# Altium integrated library TI Data Converters Analog to Digital Converter.IntLib: 2197 symbols (part 86 of 168)
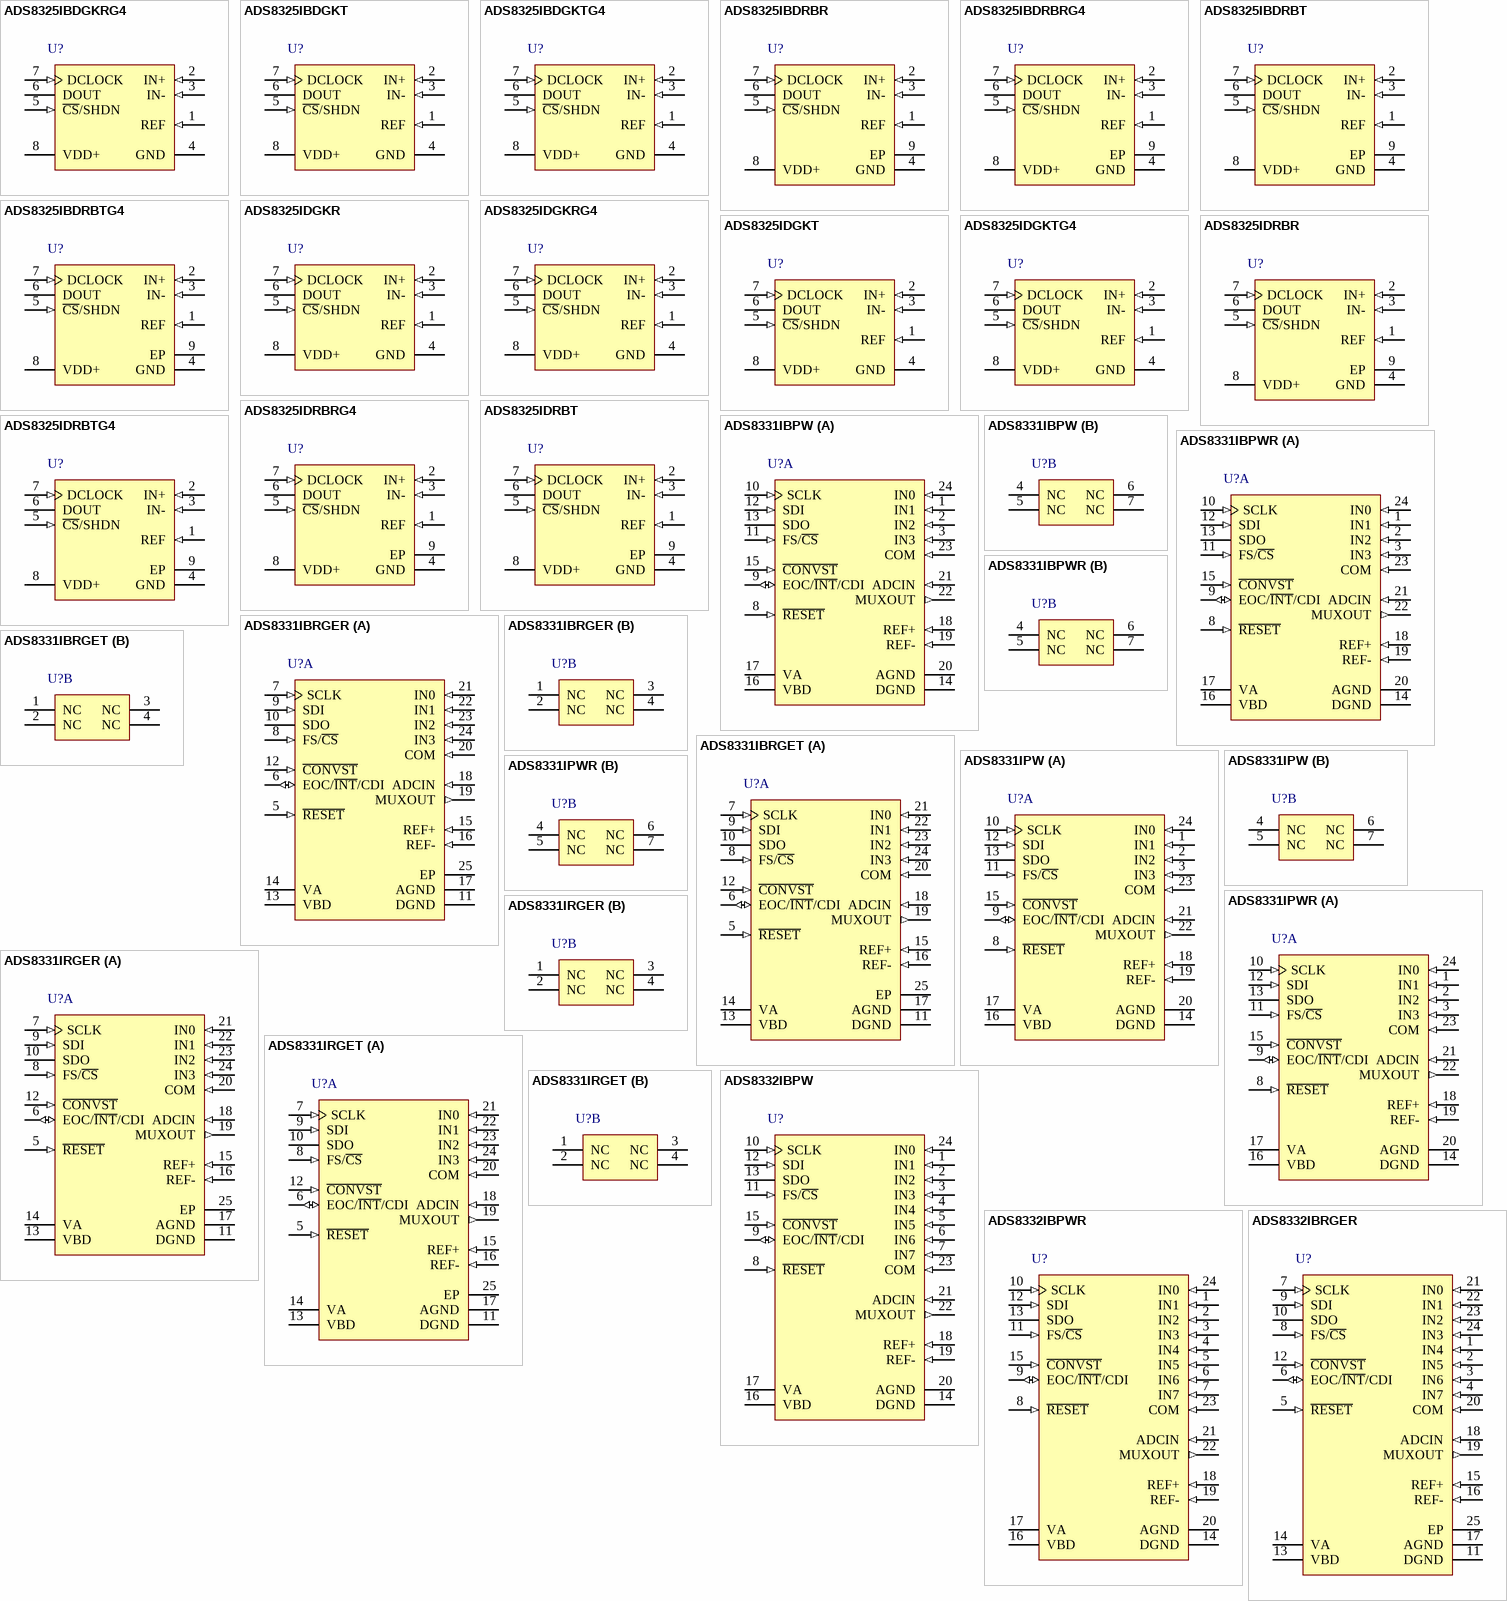
[diagram p211: symbols ADS8325IBDGKRG4 to ADS8332IBRGER]

## ADS8325IDRBTG4
designator U?
16-Bit, 100 kSPS Serial Out, 2.7 to 5.5 V Micro Power Sampling ADC, -40 to 85 degC, 8-pin SON (DRB8), Green (RoHS & no Sb/Br); Manufacturer: Texas Instruments; PartNumber: ADS8325IDRBTG4; # Input Channels: 1; Analog Voltage AV/DD(Max)(V): 5.5; Analog Voltage AV/DD(Min)(V): 2.7; Architecture: SAR; ENOB(Bits): 14.6; INL(Max)(+/-LSB): 6; Interface: Serial SPI; Resolution(Bits): 16; Sample Rate (max)(SPS): 100k; SFDR(dB): 100; SINAD(dB): 90; SubFamily: Precision ADC (<=10MSPS); DatasheetVersion: SBAS226C; PackageVersion: 4203482-2/K, 06/2012; PackageReference: DRB8-2400X1650TP; PackageDescription: 8-Pin Plastic Small Outline, Body 3 x 3 mm, Pitch 0.65 mm; Supplier 1: Digi-Key; Supplier Part Number 1: ADS930EG4-ND; Supplier 2: Mouser; Supplier Part Number 2: 595-ADS930EG4; Digital Supply(Max)(V): 5.5; Digital Supply(Min)(V): 2.7; Eco-Plan: Green (RoHS & no Sb/Br); SNR(dB): 90; Mounting Technology: Surface Mount; ComponentLink1Description: Manufacturer URL; ComponentLink1URL: http://www.ti.com/; ComponentLink2Description: Datasheet; ComponentLink2URL: http://www.ti.com/general/docs/lit/getliterature.tsp?genericPartNumber=ADS8325&fileType=pdf; ComponentLink3Description: Package Specification; ComponentLink3URL: http://www.ti.com/litv/pdf/mpds118h
footprint TI-DRB8-2400X1650TP_V (SON, 8-Leads, Body 3x3mm, Pitch 0.65mm, Thermal Pad 2.4x1.65mm)
pins: 1 REF (in) "Reference Input", 2 IN+ (in) "Noninverting Input", 3 IN- (in) "Inverting Analog Input", 4 GND (power) "Ground", 5 ~{CS}/SHDN (in) "Chip select when low; Shutdown mode when high.", 6 DOUT (hiz) "The serial output data word.", 7 DCLOCK (in) "Data clock synchronizes the serial data transfer and determines conversion speed.", 8 VDD+ (power) "Power supply", 9 EP (power)

## ADS8331IBPW
designator U?
2.7 to 5.5 V, 16-Bit 500 kSPS Low Power Serial ADC, -40 to 85 degC, 24-pin SOP (PW24), Green (RoHS & no Sb/Br); Manufacturer: Texas Instruments; PartNumber: ADS8331IBPW; # Input Channels: 4; Analog Voltage AV/DD(Max)(V): 5.5; Analog Voltage AV/DD(Min)(V): 2.7; Architecture: SAR; Digital Supply(Min)(V): 1.65; INL(Max)(+/-LSB): 2; Resolution(Bits): 16; Sample Rate (max)(SPS): 500k; SFDR(dB): 103; SINAD(dB): 88.5; SNR(dB): 89; SubFamily: Precision ADC (<=10MSPS); DatasheetVersion: SBAS363C; PackageVersion: 4040064-6/G, 02/2011; PackageReference: PW24; PackageDescription: 24-Pin Plastic Small Outline, Body 7.8 x 4.4 mm, Pitch 0.65 mm; Supplier 1: Digi-Key; Supplier Part Number 1: ADS7818ETR-ND; Supplier 2: Digi-Key; Supplier Part Number 2: ADS7818ECT-ND; Supplier 3: Digi-Key; Supplier Part Number 3: ADS7818EDKR-ND; Supplier 4: Farnell; Supplier Part Number 4: 6536517; Supplier 5: Newark; Supplier Part Number 5: 74C7129; Supplier 6: Mouser; Supplier Part Number 6: 595-ADS7818E/250; Digital Supply(Max)(V): 5.5; Eco-Plan: Green (RoHS & no Sb/Br); Mounting Technology: Surface Mount; Code_JEDEC: MO-153; ComponentLink1Description: Manufacturer URL; ComponentLink1URL: http://www.ti.com/; ComponentLink2Description: Datasheet; ComponentLink2URL: http://www.ti.com/general/docs/lit/getliterature.tsp?genericPartNumber=ADS8331&fileType=pdf; ComponentLink3Description: Package Specification; ComponentLink3URL: http://www.ti.com/litv/pdf/mpds363
footprint TI-PW24_N (SOP, 24-Leads, Body 7.8x4.4mm, Pitch 0.65mm, IPC Medium Density)
footprint TI-PW24_L (SOP, 24-Leads, Body 7.8x4.4mm, Pitch 0.65mm, IPC High Density)
footprint TI-PW24_M (SOP, 24-Leads, Body 7.8x4.4mm, Pitch 0.65mm, IPC Low Density)
part A pins: 1 IN1 (in) "Mux inputs", 2 IN2 (in) "Mux inputs", 3 IN3 (in) "Mux inputs", 8 ~{RESET} (in) "External reset (active low)", 9 EOC/~{INT}/CDI (io), 10 SCLK (in) "SPI clock for serial interface", 11 FS/~{CS} (in), 12 SDI (in) "SPI serial data in", 13 SDO (hiz) "SPI serial data out", 14 DGND (power) "Digital interface ground", 15 ~{CONVST} (in) "Conversion start. Freezes sample and hold, starts conversion.", 16 VBD (power) "Digital interface supply", 17 VA (power) "Analog supply, +2.7V to +5.5V", 18 REF+ (in) "External reference input", 19 REF- (in) "External reference ground (connect to AGND through an individual via on the printed circuit board)", 20 AGND (power) "Analog ground", 21 ADCIN (in) "ADC input", 22 MUXOUT (out) "Mux output", 23 COM (in) "Common ADC input (usually connected to AGND)", 24 IN0 (in) "Mux inputs"
part B pins: 4 NC "No connection", 5 NC "No connection", 6 NC "No connection", 7 NC "No connection"

## ADS8331IBPWR
designator U?
2.7 to 5.5 V, 16-Bit 500 kSPS Low Power Serial ADC, -40 to 85 degC, 24-pin SOP (PW24), Green (RoHS & no Sb/Br); Manufacturer: Texas Instruments; PartNumber: ADS8331IBPWR; # Input Channels: 4; Analog Voltage AV/DD(Max)(V): 5.5; Analog Voltage AV/DD(Min)(V): 2.7; Architecture: SAR; Digital Supply(Min)(V): 1.65; INL(Max)(+/-LSB): 2; Resolution(Bits): 16; Sample Rate (max)(SPS): 500k; SFDR(dB): 103; SINAD(dB): 88.5; SNR(dB): 89; SubFamily: Precision ADC (<=10MSPS); DatasheetVersion: SBAS363C; PackageVersion: 4040064-6/G, 02/2011; PackageReference: PW24; PackageDescription: 24-Pin Plastic Small Outline, Body 7.8 x 4.4 mm, Pitch 0.65 mm; Supplier 1: Digi-Key; Supplier Part Number 1: ADS7818E/250G4-ND; Supplier 2: Farnell; Supplier Part Number 2: 9324119; Supplier 3: Newark; Supplier Part Number 3: 37K8968; Supplier 4: Mouser; Supplier Part Number 4: 595-ADS7818E/250G4; Digital Supply(Max)(V): 5.5; Eco-Plan: Green (RoHS & no Sb/Br); Mounting Technology: Surface Mount; Code_JEDEC: MO-153; ComponentLink1Description: Manufacturer URL; ComponentLink1URL: http://www.ti.com/; ComponentLink2Description: Datasheet; ComponentLink2URL: http://www.ti.com/general/docs/lit/getliterature.tsp?genericPartNumber=ADS8331&fileType=pdf; ComponentLink3Description: Package Specification; ComponentLink3URL: http://www.ti.com/litv/pdf/mpds363
footprint TI-PW24_N (SOP, 24-Leads, Body 7.8x4.4mm, Pitch 0.65mm, IPC Medium Density)
footprint TI-PW24_L (SOP, 24-Leads, Body 7.8x4.4mm, Pitch 0.65mm, IPC High Density)
footprint TI-PW24_M (SOP, 24-Leads, Body 7.8x4.4mm, Pitch 0.65mm, IPC Low Density)
part A pins: 1 IN1 (in) "Mux inputs", 2 IN2 (in) "Mux inputs", 3 IN3 (in) "Mux inputs", 8 ~{RESET} (in) "External reset (active low)", 9 EOC/~{INT}/CDI (io), 10 SCLK (in) "SPI clock for serial interface", 11 FS/~{CS} (in), 12 SDI (in) "SPI serial data in", 13 SDO (hiz) "SPI serial data out", 14 DGND (power) "Digital interface ground", 15 ~{CONVST} (in) "Conversion start. Freezes sample and hold, starts conversion.", 16 VBD (power) "Digital interface supply", 17 VA (power) "Analog supply, +2.7V to +5.5V", 18 REF+ (in) "External reference input", 19 REF- (in) "External reference ground (connect to AGND through an individual via on the printed circuit board)", 20 AGND (power) "Analog ground", 21 ADCIN (in) "ADC input", 22 MUXOUT (out) "Mux output", 23 COM (in) "Common ADC input (usually connected to AGND)", 24 IN0 (in) "Mux inputs"
part B pins: 4 NC "No connection", 5 NC "No connection", 6 NC "No connection", 7 NC "No connection"

## ADS8331IBRGER
designator U?
2.7 to 5.5 V, 16-Bit 500 kSPS Low Power Serial ADC, -40 to 85 degC, 24-pin QFN (RGE24), Green (RoHS & no Sb/Br); Manufacturer: Texas Instruments; PartNumber: ADS8331IBRGER; # Input Channels: 4; Analog Voltage AV/DD(Max)(V): 5.5; Analog Voltage AV/DD(Min)(V): 2.7; Architecture: SAR; Digital Supply(Min)(V): 1.65; INL(Max)(+/-LSB): 2; Resolution(Bits): 16; Sample Rate (max)(SPS): 500k; SFDR(dB): 103; SINAD(dB): 88.5; SNR(dB): 89; SubFamily: Precision ADC (<=10MSPS); DatasheetVersion: SBAS363C; PackageVersion: 4204104/G, 07/2011; PackageReference: RGE24-2800X2800TP; PackageDescription: 24-Pin Plastic Flat Pack, Body 4 x 4 mm, Pitch 0.5 mm; Supplier 1: Digi-Key; Supplier Part Number 1: ADS7818E/2K5-ND; Supplier 2: Mouser; Supplier Part Number 2: 595-ADS7818E/2K5; Digital Supply(Max)(V): 5.5; Eco-Plan: Green (RoHS & no Sb/Br); Mounting Technology: Surface Mount; Code_JEDEC: MO-220; ComponentLink1Description: Manufacturer URL; ComponentLink1URL: http://www.ti.com/; ComponentLink2Description: Datasheet; ComponentLink2URL: http://www.ti.com/general/docs/lit/getliterature.tsp?genericPartNumber=ADS8331&fileType=pdf; ComponentLink3Description: Package Specification; ComponentLink3URL: http://www.ti.com/litv/pdf/mpqf124f
footprint TI-RGE24-2800X2800TP_V (QFN, 24-Leads, Body 4x4mm, Pitch 0.5mm, Thermal Pad 2.8X2.8mm)
part A pins: 5 ~{RESET} (in) "External reset (active low)", 6 EOC/~{INT}/CDI (io), 7 SCLK (in) "SPI clock for serial interface", 8 FS/~{CS} (in), 9 SDI (in) "SPI serial data in", 10 SDO (hiz) "SPI serial data out", 11 DGND (power) "Digital interface ground", 12 ~{CONVST} (in) "Conversion start. Freezes sample and hold, starts conversion.", 13 VBD (power) "Digital interface supply", 14 VA (power) "Analog supply, +2.7V to +5.5V", 15 REF+ (in) "External reference input", 16 REF- (in) "External reference ground (connect to AGND through an individual via on the printed circuit board)", 17 AGND (power) "Analog ground", 18 ADCIN (in) "ADC input", 19 MUXOUT (out) "Mux output", 20 COM (in) "Common ADC input (usually connected to AGND)", 21 IN0 (in) "Mux inputs", 22 IN1 (in) "Mux inputs", 23 IN2 (in) "Mux inputs", 24 IN3 (in) "Mux inputs", 25 EP (power)
part B pins: 1 NC "No connection", 2 NC "No connection", 3 NC "No connection", 4 NC "No connection"

## ADS8331IBRGET
designator U?
2.7 to 5.5 V, 16-Bit 500 kSPS Low Power Serial ADC, -40 to 85 degC, 24-pin QFN (RGE24), Green (RoHS & no Sb/Br); Manufacturer: Texas Instruments; PartNumber: ADS8331IBRGET; # Input Channels: 4; Analog Voltage AV/DD(Max)(V): 5.5; Analog Voltage AV/DD(Min)(V): 2.7; Architecture: SAR; Digital Supply(Min)(V): 1.65; INL(Max)(+/-LSB): 2; Resolution(Bits): 16; Sample Rate (max)(SPS): 500k; SFDR(dB): 103; SINAD(dB): 88.5; SNR(dB): 89; SubFamily: Precision ADC (<=10MSPS); DatasheetVersion: SBAS363C; PackageVersion: 4204104/G, 07/2011; PackageReference: RGE24-2800X2800TP; PackageDescription: 24-Pin Plastic Flat Pack, Body 4 x 4 mm, Pitch 0.5 mm; Supplier 1: Digi-Key; Supplier Part Number 1: ADS7818E/2K5G4-ND; Supplier 2: Mouser; Supplier Part Number 2: 595-ADS7818E/2K5G4; Digital Supply(Max)(V): 5.5; Eco-Plan: Green (RoHS & no Sb/Br); Mounting Technology: Surface Mount; Code_JEDEC: MO-220; ComponentLink1Description: Manufacturer URL; ComponentLink1URL: http://www.ti.com/; ComponentLink2Description: Datasheet; ComponentLink2URL: http://www.ti.com/general/docs/lit/getliterature.tsp?genericPartNumber=ADS8331&fileType=pdf; ComponentLink3Description: Package Specification; ComponentLink3URL: http://www.ti.com/litv/pdf/mpqf124f
footprint TI-RGE24-2800X2800TP_V (QFN, 24-Leads, Body 4x4mm, Pitch 0.5mm, Thermal Pad 2.8X2.8mm)
part A pins: 5 ~{RESET} (in) "External reset (active low)", 6 EOC/~{INT}/CDI (io), 7 SCLK (in) "SPI clock for serial interface", 8 FS/~{CS} (in), 9 SDI (in) "SPI serial data in", 10 SDO (hiz) "SPI serial data out", 11 DGND (power) "Digital interface ground", 12 ~{CONVST} (in) "Conversion start. Freezes sample and hold, starts conversion.", 13 VBD (power) "Digital interface supply", 14 VA (power) "Analog supply, +2.7V to +5.5V", 15 REF+ (in) "External reference input", 16 REF- (in) "External reference ground (connect to AGND through an individual via on the printed circuit board)", 17 AGND (power) "Analog ground", 18 ADCIN (in) "ADC input", 19 MUXOUT (out) "Mux output", 20 COM (in) "Common ADC input (usually connected to AGND)", 21 IN0 (in) "Mux inputs", 22 IN1 (in) "Mux inputs", 23 IN2 (in) "Mux inputs", 24 IN3 (in) "Mux inputs", 25 EP (power)
part B pins: 1 NC "No connection", 2 NC "No connection", 3 NC "No connection", 4 NC "No connection"

## ADS8331IPW
designator U?
2.7 to 5.5 V, 16-Bit 500 kSPS Low Power Serial ADC, -40 to 85 degC, 24-pin SOP (PW24), Green (RoHS & no Sb/Br); Manufacturer: Texas Instruments; PartNumber: ADS8331IPW; # Input Channels: 4; Analog Voltage AV/DD(Max)(V): 5.5; Analog Voltage AV/DD(Min)(V): 2.7; Architecture: SAR; Digital Supply(Min)(V): 1.65; INL(Max)(+/-LSB): 3; Resolution(Bits): 16; Sample Rate (max)(SPS): 500k; SFDR(dB): 103; SINAD(dB): 87.5; SNR(dB): 88; SubFamily: Precision ADC (<=10MSPS); DatasheetVersion: SBAS363C; PackageVersion: 4040064-6/G, 02/2011; PackageReference: PW24; PackageDescription: 24-Pin Plastic Small Outline, Body 7.8 x 4.4 mm, Pitch 0.65 mm; Supplier 1: Digi-Key; Supplier Part Number 1: ADS7818EBTR-ND; Supplier 2: Digi-Key; Supplier Part Number 2: ADS7818EBCT-ND; Supplier 3: Digi-Key; Supplier Part Number 3: ADS7818EBDKR-ND; Supplier 4: Newark; Supplier Part Number 4: 74C7131; Supplier 5: Mouser; Supplier Part Number 5: 595-ADS7818EB/250; Digital Supply(Max)(V): 5.5; Eco-Plan: Green (RoHS & no Sb/Br); Mounting Technology: Surface Mount; Code_JEDEC: MO-153; ComponentLink1Description: Manufacturer URL; ComponentLink1URL: http://www.ti.com/; ComponentLink2Description: Datasheet; ComponentLink2URL: http://www.ti.com/general/docs/lit/getliterature.tsp?genericPartNumber=ADS8331&fileType=pdf; ComponentLink3Description: Package Specification; ComponentLink3URL: http://www.ti.com/litv/pdf/mpds363
footprint TI-PW24_N (SOP, 24-Leads, Body 7.8x4.4mm, Pitch 0.65mm, IPC Medium Density)
footprint TI-PW24_L (SOP, 24-Leads, Body 7.8x4.4mm, Pitch 0.65mm, IPC High Density)
footprint TI-PW24_M (SOP, 24-Leads, Body 7.8x4.4mm, Pitch 0.65mm, IPC Low Density)
part A pins: 1 IN1 (in) "Mux inputs", 2 IN2 (in) "Mux inputs", 3 IN3 (in) "Mux inputs", 8 ~{RESET} (in) "External reset (active low)", 9 EOC/~{INT}/CDI (io), 10 SCLK (in) "SPI clock for serial interface", 11 FS/~{CS} (in), 12 SDI (in) "SPI serial data in", 13 SDO (hiz) "SPI serial data out", 14 DGND (power) "Digital interface ground", 15 ~{CONVST} (in) "Conversion start. Freezes sample and hold, starts conversion.", 16 VBD (power) "Digital interface supply", 17 VA (power) "Analog supply, +2.7V to +5.5V", 18 REF+ (in) "External reference input", 19 REF- (in) "External reference ground (connect to AGND through an individual via on the printed circuit board)", 20 AGND (power) "Analog ground", 21 ADCIN (in) "ADC input", 22 MUXOUT (out) "Mux output", 23 COM (in) "Common ADC input (usually connected to AGND)", 24 IN0 (in) "Mux inputs"
part B pins: 4 NC "No connection", 5 NC "No connection", 6 NC "No connection", 7 NC "No connection"

## ADS8331IPWR
designator U?
2.7 to 5.5 V, 16-Bit 500 kSPS Low Power Serial ADC, -40 to 85 degC, 24-pin SOP (PW24), Green (RoHS & no Sb/Br); Manufacturer: Texas Instruments; PartNumber: ADS8331IPWR; # Input Channels: 4; Analog Voltage AV/DD(Max)(V): 5.5; Analog Voltage AV/DD(Min)(V): 2.7; Architecture: SAR; Digital Supply(Min)(V): 1.65; INL(Max)(+/-LSB): 3; Resolution(Bits): 16; Sample Rate (max)(SPS): 500k; SFDR(dB): 103; SINAD(dB): 87.5; SNR(dB): 88; SubFamily: Precision ADC (<=10MSPS); DatasheetVersion: SBAS363C; PackageVersion: 4040064-6/G, 02/2011; PackageReference: PW24; PackageDescription: 24-Pin Plastic Small Outline, Body 7.8 x 4.4 mm, Pitch 0.65 mm; Supplier 1: Digi-Key; Supplier Part Number 1: ADS7818EB/250G4-ND; Supplier 2: Mouser; Supplier Part Number 2: 595-ADS7818EB/250G4; Digital Supply(Max)(V): 5.5; Eco-Plan: Green (RoHS & no Sb/Br); Mounting Technology: Surface Mount; Code_JEDEC: MO-153; ComponentLink1Description: Manufacturer URL; ComponentLink1URL: http://www.ti.com/; ComponentLink2Description: Datasheet; ComponentLink2URL: http://www.ti.com/general/docs/lit/getliterature.tsp?genericPartNumber=ADS8331&fileType=pdf; ComponentLink3Description: Package Specification; ComponentLink3URL: http://www.ti.com/litv/pdf/mpds363
footprint TI-PW24_N (SOP, 24-Leads, Body 7.8x4.4mm, Pitch 0.65mm, IPC Medium Density)
footprint TI-PW24_L (SOP, 24-Leads, Body 7.8x4.4mm, Pitch 0.65mm, IPC High Density)
footprint TI-PW24_M (SOP, 24-Leads, Body 7.8x4.4mm, Pitch 0.65mm, IPC Low Density)
part A pins: 1 IN1 (in) "Mux inputs", 2 IN2 (in) "Mux inputs", 3 IN3 (in) "Mux inputs", 8 ~{RESET} (in) "External reset (active low)", 9 EOC/~{INT}/CDI (io), 10 SCLK (in) "SPI clock for serial interface", 11 FS/~{CS} (in), 12 SDI (in) "SPI serial data in", 13 SDO (hiz) "SPI serial data out", 14 DGND (power) "Digital interface ground", 15 ~{CONVST} (in) "Conversion start. Freezes sample and hold, starts conversion.", 16 VBD (power) "Digital interface supply", 17 VA (power) "Analog supply, +2.7V to +5.5V", 18 REF+ (in) "External reference input", 19 REF- (in) "External reference ground (connect to AGND through an individual via on the printed circuit board)", 20 AGND (power) "Analog ground", 21 ADCIN (in) "ADC input", 22 MUXOUT (out) "Mux output", 23 COM (in) "Common ADC input (usually connected to AGND)", 24 IN0 (in) "Mux inputs"
part B pins: 4 NC "No connection", 5 NC "No connection", 6 NC "No connection", 7 NC "No connection"

## ADS8331IRGER
designator U?
2.7 to 5.5 V, 16-Bit 500 kSPS Low Power Serial ADC, -40 to 85 degC, 24-pin QFN (RGE24), Green (RoHS & no Sb/Br); Manufacturer: Texas Instruments; PartNumber: ADS8331IRGER; # Input Channels: 4; Analog Voltage AV/DD(Max)(V): 5.5; Analog Voltage AV/DD(Min)(V): 2.7; Architecture: SAR; Digital Supply(Min)(V): 1.65; INL(Max)(+/-LSB): 3; Resolution(Bits): 16; Sample Rate (max)(SPS): 500k; SFDR(dB): 103; SINAD(dB): 87.5; SNR(dB): 88; SubFamily: Precision ADC (<=10MSPS); DatasheetVersion: SBAS363C; PackageVersion: 4204104/G, 07/2011; PackageReference: RGE24-2800X2800TP; PackageDescription: 24-Pin Plastic Flat Pack, Body 4 x 4 mm, Pitch 0.5 mm; Supplier 1: Digi-Key; Supplier Part Number 1: ADS7818EB/2K5-ND; Supplier 2: Mouser; Supplier Part Number 2: 595-ADS7818EB/2K5; Digital Supply(Max)(V): 5.5; Eco-Plan: Green (RoHS & no Sb/Br); Mounting Technology: Surface Mount; Code_JEDEC: MO-220; ComponentLink1Description: Manufacturer URL; ComponentLink1URL: http://www.ti.com/; ComponentLink2Description: Datasheet; ComponentLink2URL: http://www.ti.com/general/docs/lit/getliterature.tsp?genericPartNumber=ADS8331&fileType=pdf; ComponentLink3Description: Package Specification; ComponentLink3URL: http://www.ti.com/litv/pdf/mpqf124f
footprint TI-RGE24-2800X2800TP_V (QFN, 24-Leads, Body 4x4mm, Pitch 0.5mm, Thermal Pad 2.8X2.8mm)
part A pins: 5 ~{RESET} (in) "External reset (active low)", 6 EOC/~{INT}/CDI (io), 7 SCLK (in) "SPI clock for serial interface", 8 FS/~{CS} (in), 9 SDI (in) "SPI serial data in", 10 SDO (hiz) "SPI serial data out", 11 DGND (power) "Digital interface ground", 12 ~{CONVST} (in) "Conversion start. Freezes sample and hold, starts conversion.", 13 VBD (power) "Digital interface supply", 14 VA (power) "Analog supply, +2.7V to +5.5V", 15 REF+ (in) "External reference input", 16 REF- (in) "External reference ground (connect to AGND through an individual via on the printed circuit board)", 17 AGND (power) "Analog ground", 18 ADCIN (in) "ADC input", 19 MUXOUT (out) "Mux output", 20 COM (in) "Common ADC input (usually connected to AGND)", 21 IN0 (in) "Mux inputs", 22 IN1 (in) "Mux inputs", 23 IN2 (in) "Mux inputs", 24 IN3 (in) "Mux inputs", 25 EP (power)
part B pins: 1 NC "No connection", 2 NC "No connection", 3 NC "No connection", 4 NC "No connection"

## ADS8331IRGET
designator U?
2.7 to 5.5 V, 16-Bit 500 kSPS Low Power Serial ADC, -40 to 85 degC, 24-pin QFN (RGE24), Green (RoHS & no Sb/Br); Manufacturer: Texas Instruments; PartNumber: ADS8331IRGET; # Input Channels: 4; Analog Voltage AV/DD(Max)(V): 5.5; Analog Voltage AV/DD(Min)(V): 2.7; Architecture: SAR; Digital Supply(Min)(V): 1.65; INL(Max)(+/-LSB): 3; Resolution(Bits): 16; Sample Rate (max)(SPS): 500k; SFDR(dB): 103; SINAD(dB): 87.5; SNR(dB): 88; SubFamily: Precision ADC (<=10MSPS); DatasheetVersion: SBAS363C; PackageVersion: 4204104/G, 07/2011; PackageReference: RGE24-2800X2800TP; PackageDescription: 24-Pin Plastic Flat Pack, Body 4 x 4 mm, Pitch 0.5 mm; Supplier 1: Digi-Key; Supplier Part Number 1: ADS7818EB/2K5G4-ND; Supplier 2: Mouser; Supplier Part Number 2: 595-ADS7818EB/2K5G4; Digital Supply(Max)(V): 5.5; Eco-Plan: Green (RoHS & no Sb/Br); Mounting Technology: Surface Mount; Code_JEDEC: MO-220; ComponentLink1Description: Manufacturer URL; ComponentLink1URL: http://www.ti.com/; ComponentLink2Description: Datasheet; ComponentLink2URL: http://www.ti.com/general/docs/lit/getliterature.tsp?genericPartNumber=ADS8331&fileType=pdf; ComponentLink3Description: Package Specification; ComponentLink3URL: http://www.ti.com/litv/pdf/mpqf124f
footprint TI-RGE24-2800X2800TP_V (QFN, 24-Leads, Body 4x4mm, Pitch 0.5mm, Thermal Pad 2.8X2.8mm)
part A pins: 5 ~{RESET} (in) "External reset (active low)", 6 EOC/~{INT}/CDI (io), 7 SCLK (in) "SPI clock for serial interface", 8 FS/~{CS} (in), 9 SDI (in) "SPI serial data in", 10 SDO (hiz) "SPI serial data out", 11 DGND (power) "Digital interface ground", 12 ~{CONVST} (in) "Conversion start. Freezes sample and hold, starts conversion.", 13 VBD (power) "Digital interface supply", 14 VA (power) "Analog supply, +2.7V to +5.5V", 15 REF+ (in) "External reference input", 16 REF- (in) "External reference ground (connect to AGND through an individual via on the printed circuit board)", 17 AGND (power) "Analog ground", 18 ADCIN (in) "ADC input", 19 MUXOUT (out) "Mux output", 20 COM (in) "Common ADC input (usually connected to AGND)", 21 IN0 (in) "Mux inputs", 22 IN1 (in) "Mux inputs", 23 IN2 (in) "Mux inputs", 24 IN3 (in) "Mux inputs", 25 EP (power)
part B pins: 1 NC "No connection", 2 NC "No connection", 3 NC "No connection", 4 NC "No connection"

## ADS8332IBPW
designator U?
2.7 to 5.5 V, 16-Bit 500 kSPS Low Power Serial ADC, 8-Channel MUX and Breakout, -40 to 85 degC, 24-pin SOP (PW24), Green (RoHS & no Sb/Br); Manufacturer: Texas Instruments; PartNumber: ADS8332IBPW; # Input Channels: 8; Analog Voltage AV/DD(Max)(V): 5.5; Analog Voltage AV/DD(Min)(V): 2.7; Architecture: SAR; Digital Supply(Min)(V): 1.65; INL(Max)(+/-LSB): 2; Resolution(Bits): 16; Sample Rate (max)(SPS): 500k; SFDR(dB): 103; SINAD(dB): 88.5; SNR(dB): 89; SubFamily: Precision ADC (<=10MSPS); DatasheetVersion: SBAS363C; PackageVersion: 4040064-6/G, 02/2011; PackageReference: PW24; PackageDescription: 24-Pin Plastic Small Outline, Body 7.8 x 4.4 mm, Pitch 0.65 mm; Supplier 1: Digi-Key; Supplier Part Number 1: ADS7818P-ND; Supplier 2: Newark; Supplier Part Number 2: 74C7132; Supplier 3: Mouser; Supplier Part Number 3: 595-ADS7818P; Digital Supply(Max)(V): 5.5; Eco-Plan: Green (RoHS & no Sb/Br); Mounting Technology: Surface Mount; Code_JEDEC: MO-153; ComponentLink1Description: Manufacturer URL; ComponentLink1URL: http://www.ti.com/; ComponentLink2Description: Datasheet; ComponentLink2URL: http://www.ti.com/general/docs/lit/getliterature.tsp?genericPartNumber=ADS8332&fileType=pdf; ComponentLink3Description: Package Specification; ComponentLink3URL: http://www.ti.com/litv/pdf/mpds363
footprint TI-PW24_N (SOP, 24-Leads, Body 7.8x4.4mm, Pitch 0.65mm, IPC Medium Density)
footprint TI-PW24_L (SOP, 24-Leads, Body 7.8x4.4mm, Pitch 0.65mm, IPC High Density)
footprint TI-PW24_M (SOP, 24-Leads, Body 7.8x4.4mm, Pitch 0.65mm, IPC Low Density)
pins: 1 IN1 (in) "Mux inputs", 2 IN2 (in) "Mux inputs", 3 IN3 (in) "Mux inputs", 4 IN4 (in) "Mux inputs", 5 IN5 (in) "Mux inputs", 6 IN6 (in) "Mux inputs", 7 IN7 (in) "Mux inputs", 8 ~{RESET} (in) "External reset (active low)", 9 EOC/~{INT}/CDI (io), 10 SCLK (in) "SPI clock for serial interface", 11 FS/~{CS} (in), 12 SDI (in) "SPI serial data in", 13 SDO (hiz) "SPI serial data out", 14 DGND (power) "Digital interface ground", 15 ~{CONVST} (in) "Conversion start. Freezes sample and hold, starts conversion.", 16 VBD (power) "Digital interface supply", 17 VA (power) "Analog supply, +2.7V to +5.5V", 18 REF+ (in) "External reference input", 19 REF- (in) "External reference ground (connect to AGND through an individual via on the printed circuit board)", 20 AGND (power) "Analog ground", 21 ADCIN (in) "ADC input", 22 MUXOUT (out) "Mux output", 23 COM (in) "Common ADC input (usually connected to AGND)", 24 IN0 (in) "Mux inputs"

## ADS8332IBPWR
designator U?
2.7 to 5.5 V, 16-Bit 500 kSPS Low Power Serial ADC, 8-Channel MUX and Breakout, -40 to 85 degC, 24-pin SOP (PW24), Green (RoHS & no Sb/Br); Manufacturer: Texas Instruments; PartNumber: ADS8332IBPWR; # Input Channels: 8; Analog Voltage AV/DD(Max)(V): 5.5; Analog Voltage AV/DD(Min)(V): 2.7; Architecture: SAR; Digital Supply(Min)(V): 1.65; INL(Max)(+/-LSB): 2; Resolution(Bits): 16; Sample Rate (max)(SPS): 500k; SFDR(dB): 103; SINAD(dB): 88.5; SNR(dB): 89; SubFamily: Precision ADC (<=10MSPS); DatasheetVersion: SBAS363C; PackageVersion: 4040064-6/G, 02/2011; PackageReference: PW24; PackageDescription: 24-Pin Plastic Small Outline, Body 7.8 x 4.4 mm, Pitch 0.65 mm; Supplier 1: Digi-Key; Supplier Part Number 1: ADS7818PB-ND; Supplier 2: Mouser; Supplier Part Number 2: 595-ADS7818PB; Digital Supply(Max)(V): 5.5; Eco-Plan: Green (RoHS & no Sb/Br); Mounting Technology: Surface Mount; Code_JEDEC: MO-153; ComponentLink1Description: Manufacturer URL; ComponentLink1URL: http://www.ti.com/; ComponentLink2Description: Datasheet; ComponentLink2URL: http://www.ti.com/general/docs/lit/getliterature.tsp?genericPartNumber=ADS8332&fileType=pdf; ComponentLink3Description: Package Specification; ComponentLink3URL: http://www.ti.com/litv/pdf/mpds363
footprint TI-PW24_N (SOP, 24-Leads, Body 7.8x4.4mm, Pitch 0.65mm, IPC Medium Density)
footprint TI-PW24_L (SOP, 24-Leads, Body 7.8x4.4mm, Pitch 0.65mm, IPC High Density)
footprint TI-PW24_M (SOP, 24-Leads, Body 7.8x4.4mm, Pitch 0.65mm, IPC Low Density)
pins: 1 IN1 (in) "Mux inputs", 2 IN2 (in) "Mux inputs", 3 IN3 (in) "Mux inputs", 4 IN4 (in) "Mux inputs", 5 IN5 (in) "Mux inputs", 6 IN6 (in) "Mux inputs", 7 IN7 (in) "Mux inputs", 8 ~{RESET} (in) "External reset (active low)", 9 EOC/~{INT}/CDI (io), 10 SCLK (in) "SPI clock for serial interface", 11 FS/~{CS} (in), 12 SDI (in) "SPI serial data in", 13 SDO (hiz) "SPI serial data out", 14 DGND (power) "Digital interface ground", 15 ~{CONVST} (in) "Conversion start. Freezes sample and hold, starts conversion.", 16 VBD (power) "Digital interface supply", 17 VA (power) "Analog supply, +2.7V to +5.5V", 18 REF+ (in) "External reference input", 19 REF- (in) "External reference ground (connect to AGND through an individual via on the printed circuit board)", 20 AGND (power) "Analog ground", 21 ADCIN (in) "ADC input", 22 MUXOUT (out) "Mux output", 23 COM (in) "Common ADC input (usually connected to AGND)", 24 IN0 (in) "Mux inputs"

## ADS8332IBRGER
designator U?
2.7 to 5.5 V, 16-Bit 500 kSPS Low Power Serial ADC, 8-Channel MUX and Breakout, -40 to 85 degC, 24-pin QFN (RGE24), Green (RoHS & no Sb/Br); Manufacturer: Texas Instruments; PartNumber: ADS8332IBRGER; # Input Channels: 8; Analog Voltage AV/DD(Max)(V): 5.5; Analog Voltage AV/DD(Min)(V): 2.7; Architecture: SAR; Digital Supply(Min)(V): 1.65; INL(Max)(+/-LSB): 2; Resolution(Bits): 16; Sample Rate (max)(SPS): 500k; SFDR(dB): 103; SINAD(dB): 88.5; SNR(dB): 89; SubFamily: Precision ADC (<=10MSPS); DatasheetVersion: SBAS363C; PackageVersion: 4204104/G, 07/2011; PackageReference: RGE24-2800X2800TP; PackageDescription: 24-Pin Plastic Flat Pack, Body 4 x 4 mm, Pitch 0.5 mm; Supplier 1: Digi-Key; Supplier Part Number 1: ADS7818PBG4-ND; Supplier 2: Mouser; Supplier Part Number 2: 595-ADS7818PBG4; Digital Supply(Max)(V): 5.5; Eco-Plan: Green (RoHS & no Sb/Br); Mounting Technology: Surface Mount; Code_JEDEC: MO-220; ComponentLink1Description: Manufacturer URL; ComponentLink1URL: http://www.ti.com/; ComponentLink2Description: Datasheet; ComponentLink2URL: http://www.ti.com/general/docs/lit/getliterature.tsp?genericPartNumber=ADS8332&fileType=pdf; ComponentLink3Description: Package Specification; ComponentLink3URL: http://www.ti.com/litv/pdf/mpqf124f
footprint TI-RGE24-2800X2800TP_V (QFN, 24-Leads, Body 4x4mm, Pitch 0.5mm, Thermal Pad 2.8X2.8mm)
pins: 1 IN4 (in) "Mux inputs", 2 IN5 (in) "Mux inputs", 3 IN6 (in) "Mux inputs", 4 IN7 (in) "Mux inputs", 5 ~{RESET} (in) "External reset (active low)", 6 EOC/~{INT}/CDI (io) "Status output. If programmed as end-of-conversion (EOC), this pin is low (default) when a conversion is in progress. If programmed as an interrupt (I\N\T\), this pin is low (default) after the end of conversion and returns (See Datasheet)", 7 SCLK (in) "SPI clock for serial interface", 8 FS/~{CS} (in) "Frame sync signal for DSP (such as TMS320(TM) DSP) or chip select input for SPI.", 9 SDI (in) "SPI serial data in", 10 SDO (hiz) "SPI serial data out", 11 DGND (power) "Digital interface ground", 12 ~{CONVST} (in) "Conversion start. Freezes sample and hold, starts conversion.", 13 VBD (power) "Digital interface supply", 14 VA (power) "Analog supply, +2.7 V to +5.5 V", 15 REF+ (in) "External reference input", 16 REF- (in) "External reference ground (connect to AGND through an individual via on the printed circuit board)", 17 AGND (power) "Analog ground", 18 ADCIN (in) "ADC input", 19 MUXOUT (out) "Mux output", 20 COM (in) "Common ADC input (usually connected to AGND)", 21 IN0 (in) "Mux inputs", 22 IN1 (in) "Mux inputs", 23 IN2 (in) "Mux inputs", 24 IN3 (in) "Mux inputs", 25 EP (power)

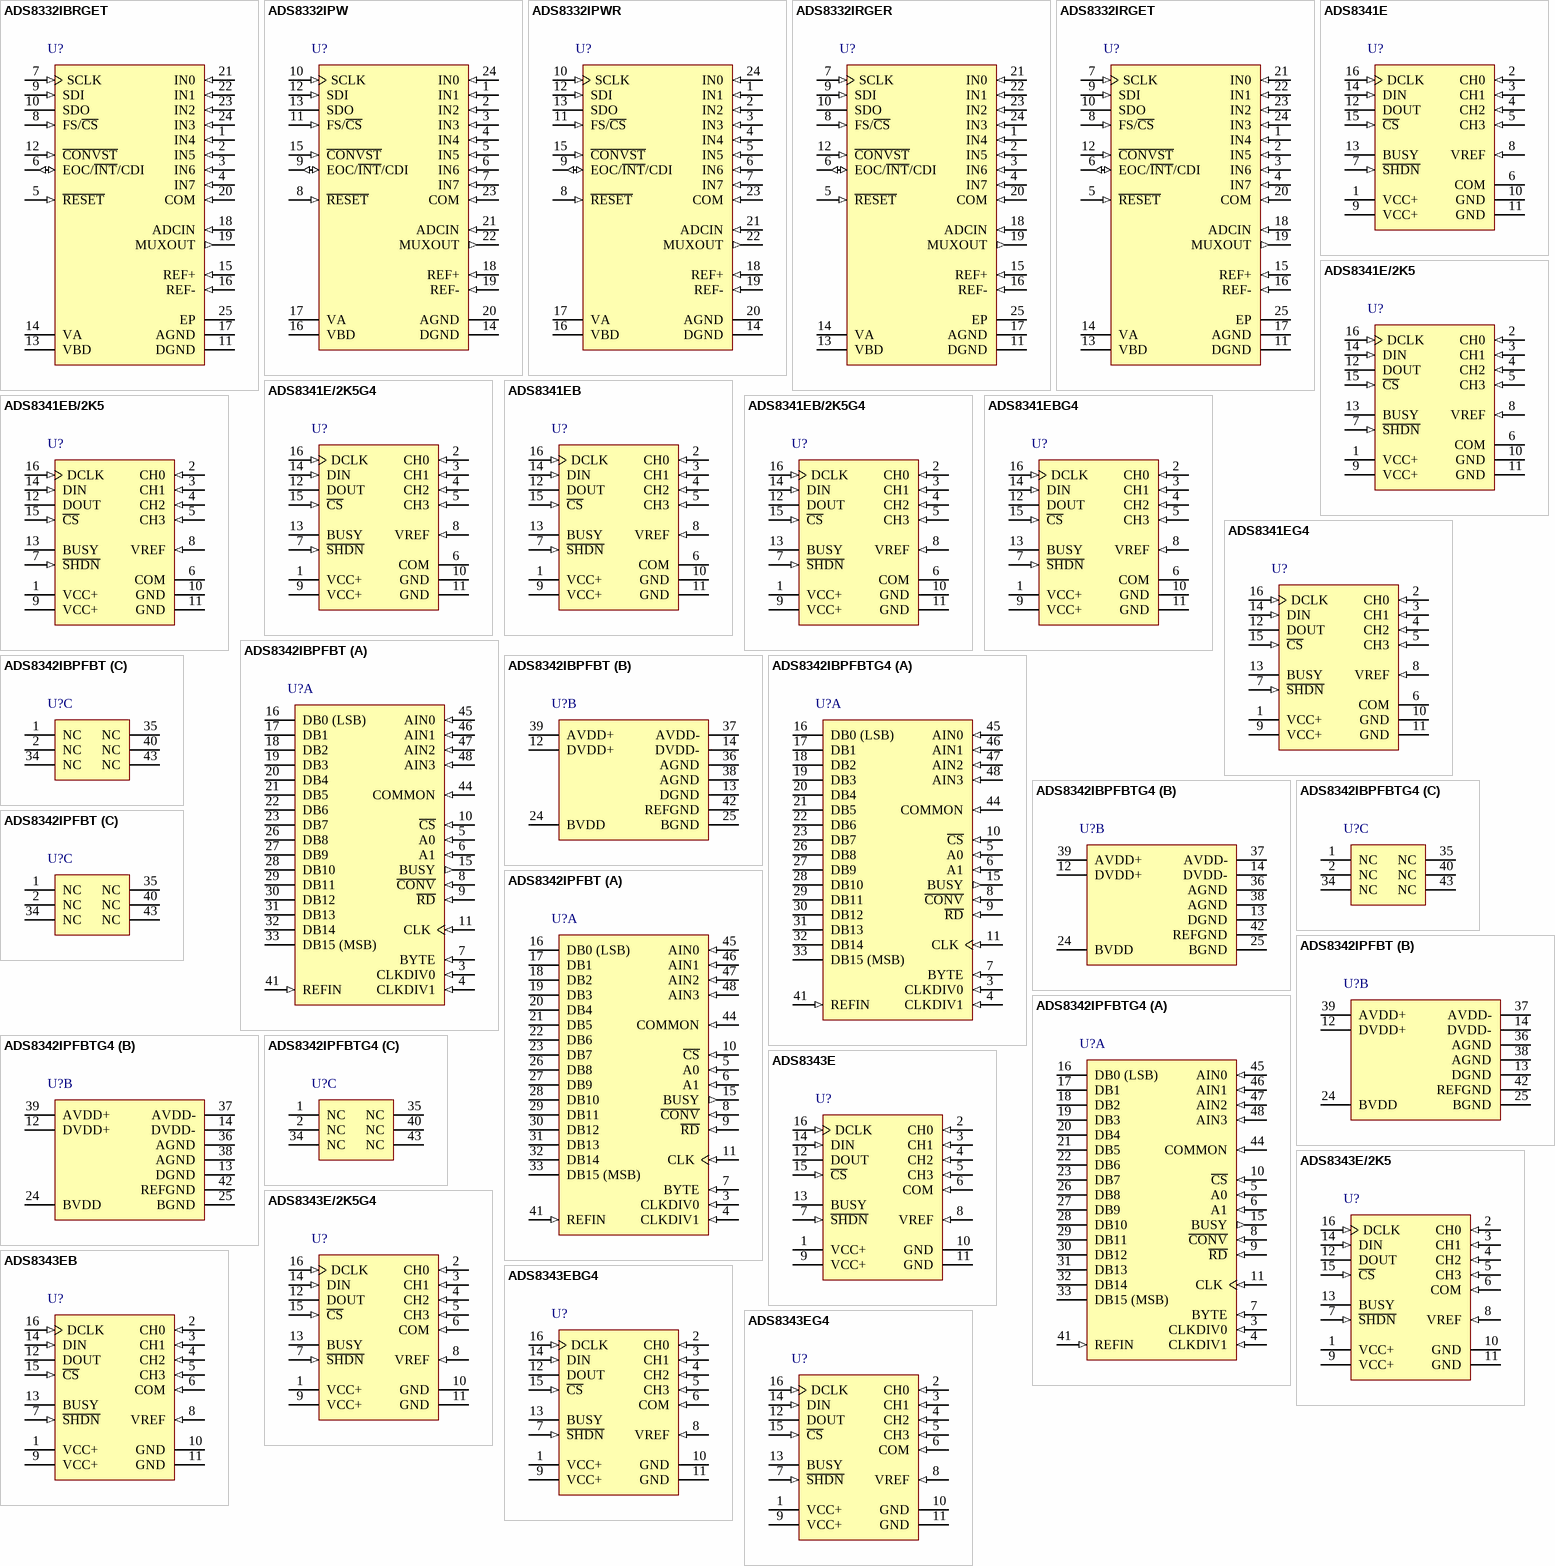
[diagram p75: symbols ADS8332IBRGET to ADS8343EG4]

## ADS8332IBRGET
designator U?
2.7 to 5.5 V, 16-Bit 500 kSPS Low Power Serial ADC, 8-Channel MUX and Breakout, -40 to 85 degC, 24-pin QFN (RGE24), Green (RoHS & no Sb/Br); Manufacturer: Texas Instruments; PartNumber: ADS8332IBRGET; # Input Channels: 8; Analog Voltage AV/DD(Max)(V): 5.5; Analog Voltage AV/DD(Min)(V): 2.7; Architecture: SAR; Digital Supply(Min)(V): 1.65; INL(Max)(+/-LSB): 2; Resolution(Bits): 16; Sample Rate (max)(SPS): 500k; SFDR(dB): 103; SINAD(dB): 88.5; SNR(dB): 89; SubFamily: Precision ADC (<=10MSPS); DatasheetVersion: SBAS363C; PackageVersion: 4204104/G, 07/2011; PackageReference: RGE24-2800X2800TP; PackageDescription: 24-Pin Plastic Flat Pack, Body 4 x 4 mm, Pitch 0.5 mm; Supplier 1: Digi-Key; Supplier Part Number 1: ADS7818PG4-ND; Supplier 2: Mouser; Supplier Part Number 2: 595-ADS7818PG4; Digital Supply(Max)(V): 5.5; Eco-Plan: Green (RoHS & no Sb/Br); Mounting Technology: Surface Mount; Code_JEDEC: MO-220; ComponentLink1Description: Manufacturer URL; ComponentLink1URL: http://www.ti.com/; ComponentLink2Description: Datasheet; ComponentLink2URL: http://www.ti.com/general/docs/lit/getliterature.tsp?genericPartNumber=ADS8332&fileType=pdf; ComponentLink3Description: Package Specification; ComponentLink3URL: http://www.ti.com/litv/pdf/mpqf124f
footprint TI-RGE24-2800X2800TP_V (QFN, 24-Leads, Body 4x4mm, Pitch 0.5mm, Thermal Pad 2.8X2.8mm)
pins: 1 IN4 (in) "Mux inputs", 2 IN5 (in) "Mux inputs", 3 IN6 (in) "Mux inputs", 4 IN7 (in) "Mux inputs", 5 ~{RESET} (in) "External reset (active low)", 6 EOC/~{INT}/CDI (io) "Status output. If programmed as end-of-conversion (EOC), this pin is low (default) when a conversion is in progress. If programmed as an interrupt (I\N\T\), this pin is low (default) after the end of conversion and returns (See Datasheet)", 7 SCLK (in) "SPI clock for serial interface", 8 FS/~{CS} (in) "Frame sync signal for DSP (such as TMS320(TM) DSP) or chip select input for SPI.", 9 SDI (in) "SPI serial data in", 10 SDO (hiz) "SPI serial data out", 11 DGND (power) "Digital interface ground", 12 ~{CONVST} (in) "Conversion start. Freezes sample and hold, starts conversion.", 13 VBD (power) "Digital interface supply", 14 VA (power) "Analog supply, +2.7 V to +5.5 V", 15 REF+ (in) "External reference input", 16 REF- (in) "External reference ground (connect to AGND through an individual via on the printed circuit board)", 17 AGND (power) "Analog ground", 18 ADCIN (in) "ADC input", 19 MUXOUT (out) "Mux output", 20 COM (in) "Common ADC input (usually connected to AGND)", 21 IN0 (in) "Mux inputs", 22 IN1 (in) "Mux inputs", 23 IN2 (in) "Mux inputs", 24 IN3 (in) "Mux inputs", 25 EP (power)

## ADS8332IPW
designator U?
2.7 to 5.5 V, 16-Bit 500 kSPS Low Power Serial ADC, 8-Channel MUX and Breakout, -40 to 85 degC, 24-pin SOP (PW24), Green (RoHS & no Sb/Br); Manufacturer: Texas Instruments; PartNumber: ADS8332IPW; # Input Channels: 8; Analog Voltage AV/DD(Max)(V): 5.5; Analog Voltage AV/DD(Min)(V): 2.7; Architecture: SAR; Digital Supply(Min)(V): 1.65; INL(Max)(+/-LSB): 3; Resolution(Bits): 16; Sample Rate (max)(SPS): 500k; SFDR(dB): 103; SINAD(dB): 87.5; SNR(dB): 88; SubFamily: Precision ADC (<=10MSPS); DatasheetVersion: SBAS363C; PackageVersion: 4040064-6/G, 02/2011; PackageReference: PW24; PackageDescription: 24-Pin Plastic Small Outline, Body 7.8 x 4.4 mm, Pitch 0.65 mm; Supplier 1: Digi-Key; Supplier Part Number 1: ADS7822ETR-ND; Supplier 2: Digi-Key; Supplier Part Number 2: ADS7822ECT-ND; Supplier 3: Digi-Key; Supplier Part Number 3: ADS7822EDKR-ND; Supplier 4: Newark; Supplier Part Number 4: 80K5555; Supplier 5: Mouser; Supplier Part Number 5: 595-ADS7822E/250; Digital Supply(Max)(V): 5.5; Eco-Plan: Green (RoHS & no Sb/Br); Mounting Technology: Surface Mount; Code_JEDEC: MO-153; ComponentLink1Description: Manufacturer URL; ComponentLink1URL: http://www.ti.com/; ComponentLink2Description: Datasheet; ComponentLink2URL: http://www.ti.com/general/docs/lit/getliterature.tsp?genericPartNumber=ADS8332&fileType=pdf; ComponentLink3Description: Package Specification; ComponentLink3URL: http://www.ti.com/litv/pdf/mpds363
footprint TI-PW24_N (SOP, 24-Leads, Body 7.8x4.4mm, Pitch 0.65mm, IPC Medium Density)
footprint TI-PW24_L (SOP, 24-Leads, Body 7.8x4.4mm, Pitch 0.65mm, IPC High Density)
footprint TI-PW24_M (SOP, 24-Leads, Body 7.8x4.4mm, Pitch 0.65mm, IPC Low Density)
pins: 1 IN1 (in) "Mux inputs", 2 IN2 (in) "Mux inputs", 3 IN3 (in) "Mux inputs", 4 IN4 (in) "Mux inputs", 5 IN5 (in) "Mux inputs", 6 IN6 (in) "Mux inputs", 7 IN7 (in) "Mux inputs", 8 ~{RESET} (in) "External reset (active low)", 9 EOC/~{INT}/CDI (io), 10 SCLK (in) "SPI clock for serial interface", 11 FS/~{CS} (in), 12 SDI (in) "SPI serial data in", 13 SDO (hiz) "SPI serial data out", 14 DGND (power) "Digital interface ground", 15 ~{CONVST} (in) "Conversion start. Freezes sample and hold, starts conversion.", 16 VBD (power) "Digital interface supply", 17 VA (power) "Analog supply, +2.7V to +5.5V", 18 REF+ (in) "External reference input", 19 REF- (in) "External reference ground (connect to AGND through an individual via on the printed circuit board)", 20 AGND (power) "Analog ground", 21 ADCIN (in) "ADC input", 22 MUXOUT (out) "Mux output", 23 COM (in) "Common ADC input (usually connected to AGND)", 24 IN0 (in) "Mux inputs"

## ADS8332IPWR
designator U?
2.7 to 5.5 V, 16-Bit 500 kSPS Low Power Serial ADC, 8-Channel MUX and Breakout, -40 to 85 degC, 24-pin SOP (PW24), Green (RoHS & no Sb/Br); Manufacturer: Texas Instruments; PartNumber: ADS8332IPWR; # Input Channels: 8; Analog Voltage AV/DD(Max)(V): 5.5; Analog Voltage AV/DD(Min)(V): 2.7; Architecture: SAR; Digital Supply(Min)(V): 1.65; INL(Max)(+/-LSB): 3; Resolution(Bits): 16; Sample Rate (max)(SPS): 500k; SFDR(dB): 103; SINAD(dB): 87.5; SNR(dB): 88; SubFamily: Precision ADC (<=10MSPS); DatasheetVersion: SBAS363C; PackageVersion: 4040064-6/G, 02/2011; PackageReference: PW24; PackageDescription: 24-Pin Plastic Small Outline, Body 7.8 x 4.4 mm, Pitch 0.65 mm; Supplier 1: Digi-Key; Supplier Part Number 1: ADS7822E/250G4-ND; Supplier 2: Farnell; Supplier Part Number 2: 1234760; Supplier 3: Newark; Supplier Part Number 3: 12M8280; Supplier 4: Mouser; Supplier Part Number 4: 595-ADS7822E/250G4; Digital Supply(Max)(V): 5.5; Eco-Plan: Green (RoHS & no Sb/Br); Mounting Technology: Surface Mount; Code_JEDEC: MO-153; ComponentLink1Description: Manufacturer URL; ComponentLink1URL: http://www.ti.com/; ComponentLink2Description: Datasheet; ComponentLink2URL: http://www.ti.com/general/docs/lit/getliterature.tsp?genericPartNumber=ADS8332&fileType=pdf; ComponentLink3Description: Package Specification; ComponentLink3URL: http://www.ti.com/litv/pdf/mpds363
footprint TI-PW24_N (SOP, 24-Leads, Body 7.8x4.4mm, Pitch 0.65mm, IPC Medium Density)
footprint TI-PW24_L (SOP, 24-Leads, Body 7.8x4.4mm, Pitch 0.65mm, IPC High Density)
footprint TI-PW24_M (SOP, 24-Leads, Body 7.8x4.4mm, Pitch 0.65mm, IPC Low Density)
pins: 1 IN1 (in) "Mux inputs", 2 IN2 (in) "Mux inputs", 3 IN3 (in) "Mux inputs", 4 IN4 (in) "Mux inputs", 5 IN5 (in) "Mux inputs", 6 IN6 (in) "Mux inputs", 7 IN7 (in) "Mux inputs", 8 ~{RESET} (in) "External reset (active low)", 9 EOC/~{INT}/CDI (io), 10 SCLK (in) "SPI clock for serial interface", 11 FS/~{CS} (in), 12 SDI (in) "SPI serial data in", 13 SDO (hiz) "SPI serial data out", 14 DGND (power) "Digital interface ground", 15 ~{CONVST} (in) "Conversion start. Freezes sample and hold, starts conversion.", 16 VBD (power) "Digital interface supply", 17 VA (power) "Analog supply, +2.7V to +5.5V", 18 REF+ (in) "External reference input", 19 REF- (in) "External reference ground (connect to AGND through an individual via on the printed circuit board)", 20 AGND (power) "Analog ground", 21 ADCIN (in) "ADC input", 22 MUXOUT (out) "Mux output", 23 COM (in) "Common ADC input (usually connected to AGND)", 24 IN0 (in) "Mux inputs"

## ADS8332IRGER
designator U?
2.7 to 5.5 V, 16-Bit 500 kSPS Low Power Serial ADC, 8-Channel MUX and Breakout, -40 to 85 degC, 24-pin QFN (RGE24), Green (RoHS & no Sb/Br); Manufacturer: Texas Instruments; PartNumber: ADS8332IRGER; # Input Channels: 8; Analog Voltage AV/DD(Max)(V): 5.5; Analog Voltage AV/DD(Min)(V): 2.7; Architecture: SAR; Digital Supply(Min)(V): 1.65; INL(Max)(+/-LSB): 3; Resolution(Bits): 16; Sample Rate (max)(SPS): 500k; SFDR(dB): 103; SINAD(dB): 87.5; SNR(dB): 88; SubFamily: Precision ADC (<=10MSPS); DatasheetVersion: SBAS363C; PackageVersion: 4204104/G, 07/2011; PackageReference: RGE24-2800X2800TP; PackageDescription: 24-Pin Plastic Flat Pack, Body 4 x 4 mm, Pitch 0.5 mm; Supplier 1: Digi-Key; Supplier Part Number 1: ADS7822E/2K5-ND; Supplier 2: Newark; Supplier Part Number 2: 74C7134; Supplier 3: Mouser; Supplier Part Number 3: 595-ADS7822E/2K5; Digital Supply(Max)(V): 5.5; Eco-Plan: Green (RoHS & no Sb/Br); Mounting Technology: Surface Mount; Code_JEDEC: MO-220; ComponentLink1Description: Manufacturer URL; ComponentLink1URL: http://www.ti.com/; ComponentLink2Description: Datasheet; ComponentLink2URL: http://www.ti.com/general/docs/lit/getliterature.tsp?genericPartNumber=ADS8332&fileType=pdf; ComponentLink3Description: Package Specification; ComponentLink3URL: http://www.ti.com/litv/pdf/mpqf124f
footprint TI-RGE24-2800X2800TP_V (QFN, 24-Leads, Body 4x4mm, Pitch 0.5mm, Thermal Pad 2.8X2.8mm)
pins: 1 IN4 (in) "Mux inputs", 2 IN5 (in) "Mux inputs", 3 IN6 (in) "Mux inputs", 4 IN7 (in) "Mux inputs", 5 ~{RESET} (in) "External reset (active low)", 6 EOC/~{INT}/CDI (io) "Status output. If programmed as end-of-conversion (EOC), this pin is low (default) when a conversion is in progress. If programmed as an interrupt (I\N\T\), this pin is low (default) after the end of conversion and returns (See Datasheet)", 7 SCLK (in) "SPI clock for serial interface", 8 FS/~{CS} (in) "Frame sync signal for DSP (such as TMS320(TM) DSP) or chip select input for SPI.", 9 SDI (in) "SPI serial data in", 10 SDO (hiz) "SPI serial data out", 11 DGND (power) "Digital interface ground", 12 ~{CONVST} (in) "Conversion start. Freezes sample and hold, starts conversion.", 13 VBD (power) "Digital interface supply", 14 VA (power) "Analog supply, +2.7 V to +5.5 V", 15 REF+ (in) "External reference input", 16 REF- (in) "External reference ground (connect to AGND through an individual via on the printed circuit board)", 17 AGND (power) "Analog ground", 18 ADCIN (in) "ADC input", 19 MUXOUT (out) "Mux output", 20 COM (in) "Common ADC input (usually connected to AGND)", 21 IN0 (in) "Mux inputs", 22 IN1 (in) "Mux inputs", 23 IN2 (in) "Mux inputs", 24 IN3 (in) "Mux inputs", 25 EP (power)

## ADS8332IRGET
designator U?
2.7 to 5.5 V, 16-Bit 500 kSPS Low Power Serial ADC, 8-Channel MUX and Breakout, -40 to 85 degC, 24-pin QFN (RGE24), Green (RoHS & no Sb/Br); Manufacturer: Texas Instruments; PartNumber: ADS8332IRGET; # Input Channels: 8; Analog Voltage AV/DD(Max)(V): 5.5; Analog Voltage AV/DD(Min)(V): 2.7; Architecture: SAR; Digital Supply(Min)(V): 1.65; INL(Max)(+/-LSB): 3; Resolution(Bits): 16; Sample Rate (max)(SPS): 500k; SFDR(dB): 103; SINAD(dB): 87.5; SNR(dB): 88; SubFamily: Precision ADC (<=10MSPS); DatasheetVersion: SBAS363C; PackageVersion: 4204104/G, 07/2011; PackageReference: RGE24-2800X2800TP; PackageDescription: 24-Pin Plastic Flat Pack, Body 4 x 4 mm, Pitch 0.5 mm; Supplier 1: Digi-Key; Supplier Part Number 1: ADS7822E/2K5G4-ND; Supplier 2: Newark; Supplier Part Number 2: 73J8197; Supplier 3: Mouser; Supplier Part Number 3: 595-ADS7822E/2K5G4; Digital Supply(Max)(V): 5.5; Eco-Plan: Green (RoHS & no Sb/Br); Mounting Technology: Surface Mount; Code_JEDEC: MO-220; ComponentLink1Description: Manufacturer URL; ComponentLink1URL: http://www.ti.com/; ComponentLink2Description: Datasheet; ComponentLink2URL: http://www.ti.com/general/docs/lit/getliterature.tsp?genericPartNumber=ADS8332&fileType=pdf; ComponentLink3Description: Package Specification; ComponentLink3URL: http://www.ti.com/litv/pdf/mpqf124f
footprint TI-RGE24-2800X2800TP_V (QFN, 24-Leads, Body 4x4mm, Pitch 0.5mm, Thermal Pad 2.8X2.8mm)
pins: 1 IN4 (in) "Mux inputs", 2 IN5 (in) "Mux inputs", 3 IN6 (in) "Mux inputs", 4 IN7 (in) "Mux inputs", 5 ~{RESET} (in) "External reset (active low)", 6 EOC/~{INT}/CDI (io) "Status output. If programmed as end-of-conversion (EOC), this pin is low (default) when a conversion is in progress. If programmed as an interrupt (I\N\T\), this pin is low (default) after the end of conversion and returns (See Datasheet)", 7 SCLK (in) "SPI clock for serial interface", 8 FS/~{CS} (in) "Frame sync signal for DSP (such as TMS320(TM) DSP) or chip select input for SPI.", 9 SDI (in) "SPI serial data in", 10 SDO (hiz) "SPI serial data out", 11 DGND (power) "Digital interface ground", 12 ~{CONVST} (in) "Conversion start. Freezes sample and hold, starts conversion.", 13 VBD (power) "Digital interface supply", 14 VA (power) "Analog supply, +2.7 V to +5.5 V", 15 REF+ (in) "External reference input", 16 REF- (in) "External reference ground (connect to AGND through an individual via on the printed circuit board)", 17 AGND (power) "Analog ground", 18 ADCIN (in) "ADC input", 19 MUXOUT (out) "Mux output", 20 COM (in) "Common ADC input (usually connected to AGND)", 21 IN0 (in) "Mux inputs", 22 IN1 (in) "Mux inputs", 23 IN2 (in) "Mux inputs", 24 IN3 (in) "Mux inputs", 25 EP (power)

## ADS8341E
designator U?
16-Bit, 4-Channel Serial Output Sampling ADC, -40 to 85 degC, 16-pin SOP (DBQ16), Green (RoHS & no Sb/Br); Manufacturer: Texas Instruments; PartNumber: ADS8341E; # Input Channels: 4; Analog Voltage AV/DD(Max)(V): 5.25; Analog Voltage AV/DD(Min)(V): 2.7; Architecture: SAR; INL(Max)(+/-LSB): 8; Interface: Serial SPI; Resolution(Bits): 16; Sample Rate (max)(SPS): 100k; SFDR(dB): 92; SINAD(dB): 86; SubFamily: Precision ADC (<=10MSPS); DatasheetVersion: SBAS136D; PackageVersion: 4073301-2/H, 10/2008; PackageReference: DBQ16; PackageDescription: 16-Pin Plastic Small Outline, Body 3.9 x 4.9 mm, Pitch 0.635 mm; Supplier 1: Digi-Key; Supplier Part Number 1: ADS7822EBTR-ND; Supplier 2: Digi-Key; Supplier Part Number 2: ADS7822EBCT-ND; Supplier 3: Digi-Key; Supplier Part Number 3: ADS7822EBDKR-ND; Supplier 4: Farnell; Supplier Part Number 4: 2075394; Supplier 5: Newark; Supplier Part Number 5: 82T3048; Supplier 6: Newark; Supplier Part Number 6: 74C7136; Supplier 7: Mouser; Supplier Part Number 7: 595-ADS7822EB/250; Digital Supply(Max)(V): 5.25; Digital Supply(Min)(V): 2.7; Eco-Plan: Green (RoHS & no Sb/Br); Mounting Technology: Surface Mount; Code_JEDEC: MO-137; ComponentLink1Description: Manufacturer URL; ComponentLink1URL: http://www.ti.com/; ComponentLink2Description: Datasheet; ComponentLink2URL: http://www.ti.com/general/docs/lit/getliterature.tsp?genericPartNumber=ADS8341&fileType=pdf; ComponentLink3Description: Package Specification; ComponentLink3URL: http://www.ti.com/litv/pdf/msoi004g
footprint TI-DBQ16_N (SOP, 16-Leads, Body 4.9x3.9mm, Pitch 0.635mm, IPC Medium Density)
footprint TI-DBQ16_L (SOP, 16-Leads, Body 4.9x3.9mm, Pitch 0.635mm, IPC High Density)
footprint TI-DBQ16_M (SOP, 16-Leads, Body 4.9x3.9mm, Pitch 0.635mm, IPC Low Density)
pins: 1 VCC+ (power) "Power Supply, 2.7V to 5V", 2 CH0 (in) "Analog Input Channel 0", 3 CH1 (in) "Analog Input Channel 1", 4 CH2 (in) "Analog Input Channel 2", 5 CH3 (in) "Analog Input Channel 3", 6 COM (power) "Ground Reference for Analog Inputs. Sets zero code voltage in single-ended mode. Connect this pin to ground or ground reference point.", 7 ~{SHDN} (in) "Shutdown. When LOW, the device enters a very low power shutdown mode.", 8 VREF (in) "Voltage Reference Input. See Electrical Characteristics Table for ranges.", 9 VCC+ (power) "Power Supply, 2.7V to 5V", 10 GND (power) "Ground. Connect to Analog Ground", 11 GND (power) "Ground. Connect to Analog Ground.", 12 DOUT (hiz) "Serial Data Output. Data is shifted on the falling edge of DCLK. This output is high impedance when C\S\ is HIGH.", 13 BUSY (hiz) "Busy Output. This output is high impedance when C\S\ is HIGH.", 14 DIN (in) "Serial Data Input. If C\S\ is LOW, data is latched on rising edge of DCLK.", 15 ~{CS} (in) "Chip Select Input. Controls conversion timing and enables the serial input/output register.", 16 DCLK (in) "External Clock Input. This clock runs the SAR conversion process and synchronizes serial data I/O. Maximum input clock frequency equals 2.4MHz to achieve 100kHz sampling rate."

## ADS8341E/2K5
designator U?
16-Bit, 4-Channel Serial Output Sampling ADC, -40 to 85 degC, 16-pin SOP (DBQ16), Green (RoHS & no Sb/Br); Manufacturer: Texas Instruments; PartNumber: ADS8341E/2K5; # Input Channels: 4; Analog Voltage AV/DD(Max)(V): 5.25; Analog Voltage AV/DD(Min)(V): 2.7; Architecture: SAR; INL(Max)(+/-LSB): 8; Interface: Serial SPI; Resolution(Bits): 16; Sample Rate (max)(SPS): 100k; SFDR(dB): 92; SINAD(dB): 86; SubFamily: Precision ADC (<=10MSPS); DatasheetVersion: SBAS136D; PackageVersion: 4073301-2/H, 10/2008; PackageReference: DBQ16; PackageDescription: 16-Pin Plastic Small Outline, Body 3.9 x 4.9 mm, Pitch 0.635 mm; Supplier 1: Digi-Key; Supplier Part Number 1: ADS7822EB/250G4-ND; Supplier 2: Newark; Supplier Part Number 2: 66K0595; Supplier 3: Mouser; Supplier Part Number 3: 595-ADS7822EB/250G4; Digital Supply(Max)(V): 5.25; Digital Supply(Min)(V): 2.7; Eco-Plan: Green (RoHS & no Sb/Br); Mounting Technology: Surface Mount; Code_JEDEC: MO-137; ComponentLink1Description: Manufacturer URL; ComponentLink1URL: http://www.ti.com/; ComponentLink2Description: Datasheet; ComponentLink2URL: http://www.ti.com/general/docs/lit/getliterature.tsp?genericPartNumber=ADS8341&fileType=pdf; ComponentLink3Description: Package Specification; ComponentLink3URL: http://www.ti.com/litv/pdf/msoi004g
footprint TI-DBQ16_N (SOP, 16-Leads, Body 4.9x3.9mm, Pitch 0.635mm, IPC Medium Density)
footprint TI-DBQ16_L (SOP, 16-Leads, Body 4.9x3.9mm, Pitch 0.635mm, IPC High Density)
footprint TI-DBQ16_M (SOP, 16-Leads, Body 4.9x3.9mm, Pitch 0.635mm, IPC Low Density)
pins: 1 VCC+ (power) "Power Supply, 2.7V to 5V", 2 CH0 (in) "Analog Input Channel 0", 3 CH1 (in) "Analog Input Channel 1", 4 CH2 (in) "Analog Input Channel 2", 5 CH3 (in) "Analog Input Channel 3", 6 COM (power) "Ground Reference for Analog Inputs. Sets zero code voltage in single-ended mode. Connect this pin to ground or ground reference point.", 7 ~{SHDN} (in) "Shutdown. When LOW, the device enters a very low power shutdown mode.", 8 VREF (in) "Voltage Reference Input. See Electrical Characteristics Table for ranges.", 9 VCC+ (power) "Power Supply, 2.7V to 5V", 10 GND (power) "Ground. Connect to Analog Ground", 11 GND (power) "Ground. Connect to Analog Ground.", 12 DOUT (hiz) "Serial Data Output. Data is shifted on the falling edge of DCLK. This output is high impedance when C\S\ is HIGH.", 13 BUSY (hiz) "Busy Output. This output is high impedance when C\S\ is HIGH.", 14 DIN (in) "Serial Data Input. If C\S\ is LOW, data is latched on rising edge of DCLK.", 15 ~{CS} (in) "Chip Select Input. Controls conversion timing and enables the serial input/output register.", 16 DCLK (in) "External Clock Input. This clock runs the SAR conversion process and synchronizes serial data I/O. Maximum input clock frequency equals 2.4MHz to achieve 100kHz sampling rate."